# Altium footprint library Servoheader.PcbLib: 1 footprints
Each footprint in its own frame and in the unit in brackets; x right, y up, seen from the top. Pads: shape width x height; smd on the part's side, far side on the other; paste and mask are expansions set on the pad; w line width, h text height; cw(c..) or ccw(c..) is an arc to the next point about the centre after c.
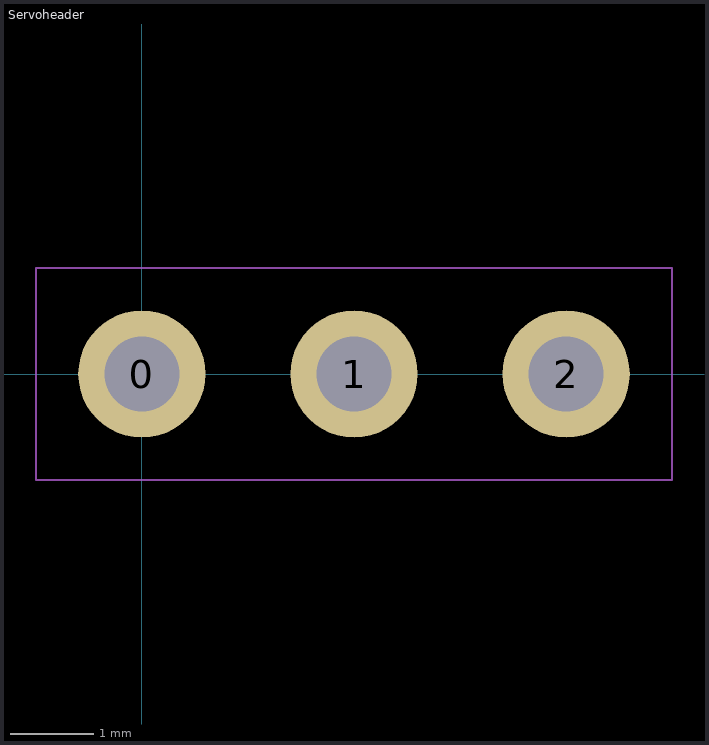
[diagram p0: the footprint, top view; thin cyan lines are the x and y axes]

## Servoheader [mil]
pads (3):
  round 60 hole 35.43: 0(0,0) 1(100,0) 2(200,0)
Mechanical 1:
  lines w1: -50,-50 250,-50 250,50 -50,50 -50,-50